# EAGLE library part MCP4728 (library work)
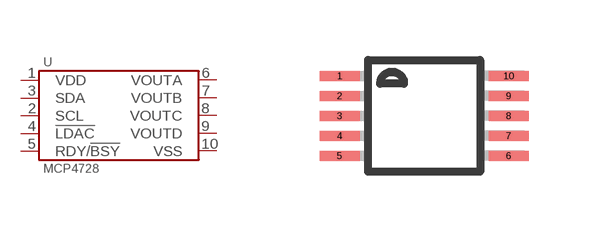
[diagram p65: symbol with the pads of MSOP-10; footprint MSOP-10]

Designator prefix U

## MCP4728  [MSOP-10]
1  VDD
2  SCL
3  SDA
4  !LDAC
5  RDY/!BSY
6  VOUTA
7  VOUTB
8  VOUTC
9  VOUTD
10  VSS

## Footprint MSOP-10 (pad centres in mm)
smd 1 x 0.25: 1 -2.113,1; 2 -2.113,0.5; 3 -2.113,0; 4 -2.113,-0.5; 5 -2.113,-1; 6 2.113,-1; 7 2.113,-0.5; 8 2.113,0; 9 2.113,0.5; 10 2.113,1